# Altium schematic symbol library 74LVC02ABQ_115.SchLib: 1 symbol
Pins are listed as number, name and electrical type; pins without a type are passive.

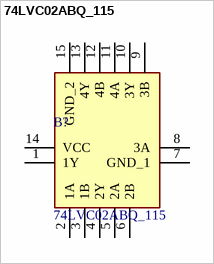
[diagram p0: symbol 74LVC02ABQ_115]

## 74LVC02ABQ_115
designator B?
Buffer, Non-Inverting 4 Element 1 Bit per Element 3-State Output 14-DHVQFN (2.5x3); Manufacturer_Name: Nexperia; Manufacturer_Part_Number: 74LVC02ABQ,115; Geometry.Height: 1mm; Mouser Part Number: 771-LVC02ABQ115; Mouser Price/Stock: https://www.mouser.co.uk/ProductDetail/Nexperia/74LVC02ABQ115?qs=me8TqzrmIYVKyFq1%2FauiSw%3D%3D; Datasheet Link: https://assets.nexperia.com/documents/data-sheet/74LVC02A.pdf
footprint 74LVC02ABQ115
pins: 1 1Y, 2 1A, 3 1B, 4 2Y, 5 2A, 6 2B, 7 GND_1, 8 3A, 9 3B, 10 3Y, 11 4A, 12 4B, 13 4Y, 14 VCC, 15 GND_2